# Altium schematic symbol library WE-PD4.SchLib: 97 symbols (part 1 of 2)
Pins are listed as number, name and electrical type; pins without a type are passive.

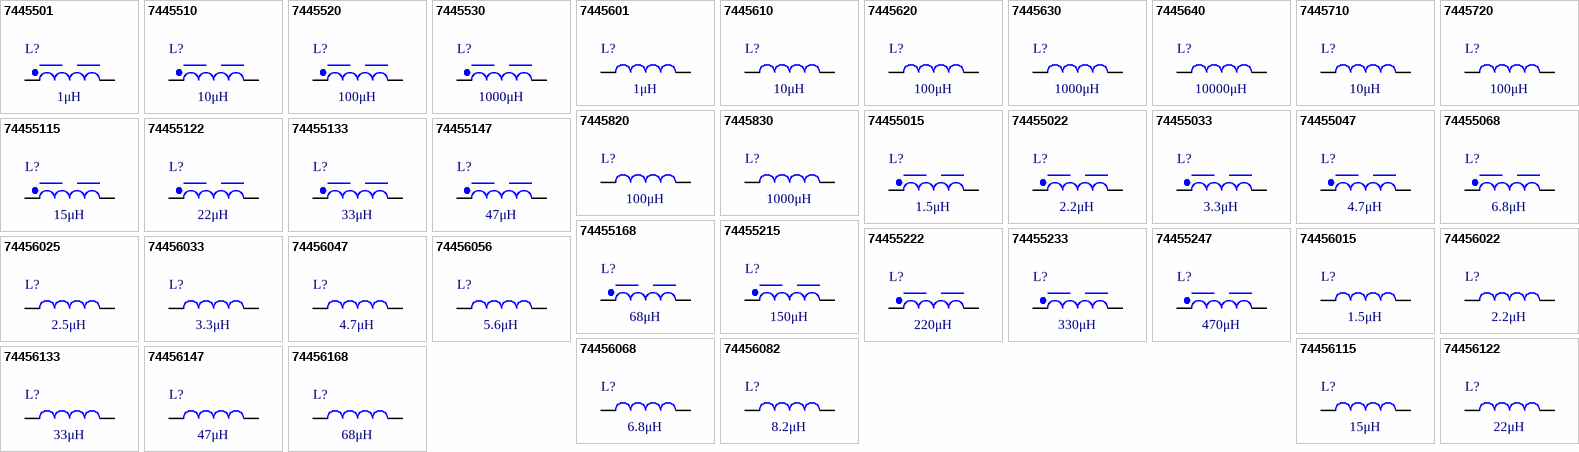
[diagram p0: symbols 7445501 to 74456168]

## 7445501
designator L?, comment 1μH
WE-PD4 Power Inductor, SMT, Type S, 1μH, 2.9A, 0.05Ω; Manufacturer Part Number: 7445501; Manufacturer: Wurth Elektronik; Case/Size Code: Type S; Self Resonant Frequency: 80MHz; Category: Power Inductors; Match Code: WE-PD4; ComponentLink1Description: Website Link; ComponentLink1URL: https://www.we-online.com/redexpert/article/7445501?ad; ComponentLink2Description: Datasheet Link; ComponentLink2URL: https://www.we-online.com/redexpert/spec/7445501?ad; Mount: Surface Mount; Min Operating Temperature: -40°C; Max Operating Temperature: 125°C; Packaging: Tape and Reel; Length: 6.6mm; Width: 4.45mm; Height: 2.92mm; DC Resistance Max: 0.05Ω; Inductance: 1μH; Rated Current: 2.9A; Saturation Current: 2.9A
footprint WE-PD4_Type S
simulation model TypeS_7445501_1u
pins: 1, 2

## 7445510
designator L?, comment 10μH
WE-PD4 Power Inductor, SMT, Type S, 10μH, 1.2A, 0.16Ω; Manufacturer Part Number: 7445510; Manufacturer: Wurth Elektronik; Case/Size Code: Type S; Saturation Current: 1.1A; Self Resonant Frequency: 26MHz; Category: Power Inductors; Match Code: WE-PD4; ComponentLink1Description: Website Link; ComponentLink1URL: https://www.we-online.com/redexpert/article/7445510?ad; ComponentLink2Description: Datasheet Link; ComponentLink2URL: https://www.we-online.com/redexpert/spec/7445510?ad; Mount: Surface Mount; Min Operating Temperature: -40°C; Max Operating Temperature: 125°C; Packaging: Tape and Reel; Length: 6.6mm; Width: 4.45mm; Height: 2.92mm; DC Resistance Max: 0.16Ω; Inductance: 10μH; Rated Current: 1.2A
footprint WE-PD4_Type S
simulation model TypeS_7445510_10u
pins: 1, 2

## 7445520
designator L?, comment 100μH
WE-PD4 Power Inductor, SMT, Type S, 100μH, 0.3A, 1.27Ω; Manufacturer Part Number: 7445520; Manufacturer: Wurth Elektronik; Case/Size Code: Type S; Saturation Current: 0.31A; Self Resonant Frequency: 8MHz; Category: Power Inductors; Match Code: WE-PD4; ComponentLink1Description: Website Link; ComponentLink1URL: https://www.we-online.com/redexpert/article/7445520?ad; ComponentLink2Description: Datasheet Link; ComponentLink2URL: https://www.we-online.com/redexpert/spec/7445520?ad; Mount: Surface Mount; Min Operating Temperature: -40°C; Max Operating Temperature: 125°C; Packaging: Tape and Reel; Length: 6.6mm; Width: 4.45mm; Height: 2.92mm; DC Resistance Max: 1.27Ω; Inductance: 100μH; Rated Current: 0.3A
footprint WE-PD4_Type S
simulation model TypeS_7445520_100u
pins: 1, 2

## 7445530
designator L?, comment 1000μH
WE-PD4 Power Inductor, SMT, Type S, 1000μH, 0.07A, 13.8Ω; Manufacturer Part Number: 7445530; Manufacturer: Wurth Elektronik; Case/Size Code: Type S; Saturation Current: 0.1A; Self Resonant Frequency: 2.2MHz; Category: Power Inductors; Match Code: WE-PD4; ComponentLink1Description: Website Link; ComponentLink1URL: https://www.we-online.com/redexpert/article/7445530?ad; ComponentLink2Description: Datasheet Link; ComponentLink2URL: https://www.we-online.com/redexpert/spec/7445530?ad; Mount: Surface Mount; Min Operating Temperature: -40°C; Max Operating Temperature: 125°C; Packaging: Tape and Reel; Length: 6.6mm; Width: 4.45mm; Height: 2.92mm; DC Resistance Max: 13.8Ω; Inductance: 1000μH; Rated Current: 0.07A
footprint WE-PD4_Type S
simulation model TypeS_7445530_1000u
pins: 1, 2

## 7445601
designator L?, comment 1μH
WE-PD4 Power Inductor, SMT, Type L, 1μH, 8.6A, 0.007Ω; Manufacturer Part Number: 7445601; Manufacturer: Wurth Elektronik; Case/Size Code: Type L; Saturation Current: 14.25A; Self Resonant Frequency: 95MHz; Category: Power Inductors; Match Code: WE-PD4; ComponentLink1Description: Website Link; ComponentLink1URL: https://www.we-online.com/redexpert/article/7445601?ad; ComponentLink2Description: Datasheet Link; ComponentLink2URL: https://www.we-online.com/redexpert/spec/7445601?ad; Mount: Surface Mount; Min Operating Temperature: -40°C; Max Operating Temperature: 125°C; Packaging: Tape and Reel; Length: 12.7mm; Width: 10mm; Height: 5mm; DC Resistance Max: 0.007Ω; Inductance: 1μH; Rated Current: 8.6A
footprint WE-PD4_Type L
simulation model TypeL_7445601_1u
pins: 1, 2

## 7445610
designator L?, comment 10μH
WE-PD4 Power Inductor, SMT, Type L, 10μH, 3.3A, 0.045Ω; Manufacturer Part Number: 7445610; Manufacturer: Wurth Elektronik; Case/Size Code: Type L; Saturation Current: 5A; Self Resonant Frequency: 23MHz; Category: Power Inductors; Match Code: WE-PD4; ComponentLink1Description: Website Link; ComponentLink1URL: https://www.we-online.com/redexpert/article/7445610?ad; ComponentLink2Description: Datasheet Link; ComponentLink2URL: https://www.we-online.com/redexpert/spec/7445610?ad; Mount: Surface Mount; Min Operating Temperature: -40°C; Max Operating Temperature: 125°C; Packaging: Tape and Reel; Length: 12.7mm; Width: 10mm; Height: 5mm; DC Resistance Max: 0.045Ω; Inductance: 10μH; Rated Current: 3.3A
footprint WE-PD4_Type L
simulation model TypeL_7445610_10u
pins: 1, 2

## 7445620
designator L?, comment 100μH
WE-PD4 Power Inductor, SMT, Type L, 100μH, 1.4A, 0.33Ω; Manufacturer Part Number: 7445620; Manufacturer: Wurth Elektronik; Case/Size Code: Type L; Saturation Current: 1.5A; Self Resonant Frequency: 6.5MHz; Category: Power Inductors; Match Code: WE-PD4; ComponentLink1Description: Website Link; ComponentLink1URL: https://www.we-online.com/redexpert/article/7445620?ad; ComponentLink2Description: Datasheet Link; ComponentLink2URL: https://www.we-online.com/redexpert/spec/7445620?ad; Mount: Surface Mount; Min Operating Temperature: -40°C; Max Operating Temperature: 125°C; Packaging: Tape and Reel; Length: 12.7mm; Width: 10mm; Height: 5mm; DC Resistance Max: 0.33Ω; Inductance: 100μH; Rated Current: 1.4A
footprint WE-PD4_Type L
simulation model TypeL_7445620_100u
pins: 1, 2

## 7445630
designator L?, comment 1000μH
WE-PD4 Power Inductor, SMT, Type L, 1000μH, 0.4A, 3.9Ω; Manufacturer Part Number: 7445630; Manufacturer: Wurth Elektronik; Case/Size Code: Type L; Saturation Current: 0.52A; Self Resonant Frequency: 1.9MHz; Category: Power Inductors; Match Code: WE-PD4; ComponentLink1Description: Website Link; ComponentLink1URL: https://www.we-online.com/redexpert/article/7445630?ad; ComponentLink2Description: Datasheet Link; ComponentLink2URL: https://www.we-online.com/redexpert/spec/7445630?ad; Mount: Surface Mount; Min Operating Temperature: -40°C; Max Operating Temperature: 125°C; Packaging: Tape and Reel; Length: 12.7mm; Width: 10mm; Height: 5mm; DC Resistance Max: 3.9Ω; Inductance: 1000μH; Rated Current: 0.4A
footprint WE-PD4_Type L
simulation model TypeL_7445630_1000u
pins: 1, 2

## 7445640
designator L?, comment 10000μH
WE-PD4 Power Inductor, SMT, Type L, 10000μH, 0.1A, 39Ω; Manufacturer Part Number: 7445640; Manufacturer: Wurth Elektronik; Case/Size Code: Type L; Saturation Current: 0.15A; Self Resonant Frequency: 0.6MHz; Category: Power Inductors; Match Code: WE-PD4; ComponentLink1Description: Website Link; ComponentLink1URL: https://www.we-online.com/redexpert/article/7445640?ad; ComponentLink2Description: Datasheet Link; ComponentLink2URL: https://www.we-online.com/redexpert/spec/7445640?ad; Mount: Surface Mount; Min Operating Temperature: -40°C; Max Operating Temperature: 125°C; Packaging: Tape and Reel; Length: 12.7mm; Width: 10mm; Height: 5mm; DC Resistance Max: 39Ω; Inductance: 10000μH; Rated Current: 0.1A
footprint WE-PD4_Type L
simulation model TypeL_7445640_10000u
pins: 1, 2

## 7445710
designator L?, comment 10μH
WE-PD4 Power Inductor, SMT, Type XL, 10μH, 6.5A, 0.021Ω; Manufacturer Part Number: 7445710; Manufacturer: Wurth Elektronik; Case/Size Code: Type XL; Saturation Current: 10A; Self Resonant Frequency: 22MHz; Category: Power Inductors; Match Code: WE-PD4; ComponentLink1Description: Website Link; ComponentLink1URL: https://www.we-online.com/redexpert/article/7445710?ad; ComponentLink2Description: Datasheet Link; ComponentLink2URL: https://www.we-online.com/redexpert/spec/7445710?ad; Mount: Surface Mount; Min Operating Temperature: -40°C; Max Operating Temperature: 125°C; Packaging: Tape and Reel; Length: 22mm; Width: 15mm; Height: 7mm; DC Resistance Max: 0.021Ω; Inductance: 10μH; Rated Current: 6.5A
footprint WE-PD4_Type XL
simulation model TypeXL_7445710_10u
pins: 1, 2

## 7445720
designator L?, comment 100μH
WE-PD4 Power Inductor, SMT, Type XL, 100μH, 2A, 0.202Ω; Manufacturer Part Number: 7445720; Manufacturer: Wurth Elektronik; Case/Size Code: Type XL; Saturation Current: 3A; Self Resonant Frequency: 6.5MHz; Category: Power Inductors; Match Code: WE-PD4; ComponentLink1Description: Website Link; ComponentLink1URL: https://www.we-online.com/redexpert/article/7445720?ad; ComponentLink2Description: Datasheet Link; ComponentLink2URL: https://www.we-online.com/redexpert/spec/7445720?ad; Mount: Surface Mount; Min Operating Temperature: -40°C; Max Operating Temperature: 125°C; Packaging: Tape and Reel; Length: 22mm; Width: 15mm; Height: 7mm; DC Resistance Max: 0.202Ω; Inductance: 100μH; Rated Current: 2A
footprint WE-PD4_Type XL
simulation model TypeXL_7445720_100u
pins: 1, 2

## 7445820
designator L?, comment 100μH
WE-PD4 Power Inductor, SMT, Type X, 100μH, 1.8A, 0.19Ω; Manufacturer Part Number: 7445820; Manufacturer: Wurth Elektronik; Case/Size Code: Type X; Saturation Current: 3.4A; Self Resonant Frequency: 6MHz; Category: Power Inductors; Match Code: WE-PD4; ComponentLink1Description: Website Link; ComponentLink1URL: https://www.we-online.com/redexpert/article/7445820?ad; ComponentLink2Description: Datasheet Link; ComponentLink2URL: https://www.we-online.com/redexpert/spec/7445820?ad; Mount: Surface Mount; Min Operating Temperature: -40°C; Max Operating Temperature: 125°C; Packaging: Tape and Reel; Length: 18.54mm; Width: 15.24mm; Height: 7.11mm; DC Resistance Max: 0.19Ω; Inductance: 100μH; Rated Current: 1.8A
footprint WE-PD4_Type X
simulation model TypeX_7445820_100u
pins: 1, 2

## 7445830
designator L?, comment 1000μH
WE-PD4 Power Inductor, SMT, Type X, 1000μH, 0.56A, 1.8Ω; Manufacturer Part Number: 7445830; Manufacturer: Wurth Elektronik; Case/Size Code: Type X; Saturation Current: 1.1A; Self Resonant Frequency: 1.5MHz; Category: Power Inductors; Match Code: WE-PD4; ComponentLink1Description: Website Link; ComponentLink1URL: https://www.we-online.com/redexpert/article/7445830?ad; ComponentLink2Description: Datasheet Link; ComponentLink2URL: https://www.we-online.com/redexpert/spec/7445830?ad; Mount: Surface Mount; Min Operating Temperature: -40°C; Max Operating Temperature: 125°C; Packaging: Tape and Reel; Length: 18.54mm; Width: 15.24mm; Height: 7.11mm; DC Resistance Max: 1.8Ω; Inductance: 1000μH; Rated Current: 0.56A
footprint WE-PD4_Type X
simulation model TypeX_7445830_1000u
pins: 1, 2

## 74455015
designator L?, comment 1.5μH
WE-PD4 Power Inductor, SMT, Type S, 1.5μH, 2.8A, 0.05Ω; Manufacturer Part Number: 74455015; Manufacturer: Wurth Elektronik; Case/Size Code: Type S; Saturation Current: 2.6A; Self Resonant Frequency: 62MHz; Category: Power Inductors; Match Code: WE-PD4; ComponentLink1Description: Website Link; ComponentLink1URL: https://www.we-online.com/redexpert/article/74455015?ad; ComponentLink2Description: Datasheet Link; ComponentLink2URL: https://www.we-online.com/redexpert/spec/74455015?ad; Mount: Surface Mount; Min Operating Temperature: -40°C; Max Operating Temperature: 125°C; Packaging: Tape and Reel; Length: 6.6mm; Width: 4.45mm; Height: 2.92mm; DC Resistance Max: 0.05Ω; Inductance: 1.5μH; Rated Current: 2.8A
footprint WE-PD4_Type S
simulation model TypeS_74455015_1.5u
pins: 1, 2

## 74455022
designator L?, comment 2.2μH
WE-PD4 Power Inductor, SMT, Type S, 2.2μH, 2.4A, 0.07Ω; Manufacturer Part Number: 74455022; Manufacturer: Wurth Elektronik; Case/Size Code: Type S; Saturation Current: 2.3A; Self Resonant Frequency: 50MHz; Category: Power Inductors; Match Code: WE-PD4; ComponentLink1Description: Website Link; ComponentLink1URL: https://www.we-online.com/redexpert/article/74455022?ad; ComponentLink2Description: Datasheet Link; ComponentLink2URL: https://www.we-online.com/redexpert/spec/74455022?ad; Mount: Surface Mount; Min Operating Temperature: -40°C; Max Operating Temperature: 125°C; Packaging: Tape and Reel; Length: 6.6mm; Width: 4.45mm; Height: 2.92mm; DC Resistance Max: 0.07Ω; Inductance: 2.2μH; Rated Current: 2.4A
footprint WE-PD4_Type S
simulation model TypeS_74455022_2.2u
pins: 1, 2

## 74455033
designator L?, comment 3.3μH
WE-PD4 Power Inductor, SMT, Type S, 3.3μH, 2A, 0.08Ω; Manufacturer Part Number: 74455033; Manufacturer: Wurth Elektronik; Case/Size Code: Type S; Self Resonant Frequency: 39MHz; Category: Power Inductors; Match Code: WE-PD4; ComponentLink1Description: Website Link; ComponentLink1URL: https://www.we-online.com/redexpert/article/74455033?ad; ComponentLink2Description: Datasheet Link; ComponentLink2URL: https://www.we-online.com/redexpert/spec/74455033?ad; Mount: Surface Mount; Min Operating Temperature: -40°C; Max Operating Temperature: 125°C; Packaging: Tape and Reel; Length: 6.6mm; Width: 4.45mm; Height: 2.92mm; DC Resistance Max: 0.08Ω; Inductance: 3.3μH; Rated Current: 2A; Saturation Current: 2A
footprint WE-PD4_Type S
simulation model TypeS_74455033_3.3u
pins: 1, 2

## 74455047
designator L?, comment 4.7μH
WE-PD4 Power Inductor, SMT, Type S, 4.7μH, 1.5A, 0.09Ω; Manufacturer Part Number: 74455047; Manufacturer: Wurth Elektronik; Case/Size Code: Type S; Self Resonant Frequency: 37MHz; Category: Power Inductors; Match Code: WE-PD4; ComponentLink1Description: Website Link; ComponentLink1URL: https://www.we-online.com/redexpert/article/74455047?ad; ComponentLink2Description: Datasheet Link; ComponentLink2URL: https://www.we-online.com/redexpert/spec/74455047?ad; Mount: Surface Mount; Min Operating Temperature: -40°C; Max Operating Temperature: 125°C; Packaging: Tape and Reel; Length: 6.6mm; Width: 4.45mm; Height: 2.92mm; DC Resistance Max: 0.09Ω; Inductance: 4.7μH; Rated Current: 1.5A; Saturation Current: 1.5A
footprint WE-PD4_Type S
simulation model TypeS_74455047_4.7u
pins: 1, 2

## 74455068
designator L?, comment 6.8μH
WE-PD4 Power Inductor, SMT, Type S, 6.8μH, 1.4A, 0.13Ω; Manufacturer Part Number: 74455068; Manufacturer: Wurth Elektronik; Case/Size Code: Type S; Saturation Current: 1.2A; Self Resonant Frequency: 29MHz; Category: Power Inductors; Match Code: WE-PD4; ComponentLink1Description: Website Link; ComponentLink1URL: https://www.we-online.com/redexpert/article/74455068?ad; ComponentLink2Description: Datasheet Link; ComponentLink2URL: https://www.we-online.com/redexpert/spec/74455068?ad; Mount: Surface Mount; Min Operating Temperature: -40°C; Max Operating Temperature: 125°C; Packaging: Tape and Reel; Length: 6.6mm; Width: 4.45mm; Height: 2.92mm; DC Resistance Max: 0.13Ω; Inductance: 6.8μH; Rated Current: 1.4A
footprint WE-PD4_Type S
simulation model TypeS_74455068_6.8u
pins: 1, 2

## 74455115
designator L?, comment 15μH
WE-PD4 Power Inductor, SMT, Type S, 15μH, 1.1A, 0.23Ω; Manufacturer Part Number: 74455115; Manufacturer: Wurth Elektronik; Case/Size Code: Type S; Saturation Current: 0.9A; Self Resonant Frequency: 19MHz; Category: Power Inductors; Match Code: WE-PD4; ComponentLink1Description: Website Link; ComponentLink1URL: https://www.we-online.com/redexpert/article/74455115?ad; ComponentLink2Description: Datasheet Link; ComponentLink2URL: https://www.we-online.com/redexpert/spec/74455115?ad; Mount: Surface Mount; Min Operating Temperature: -40°C; Max Operating Temperature: 125°C; Packaging: Tape and Reel; Length: 6.6mm; Width: 4.45mm; Height: 2.92mm; DC Resistance Max: 0.23Ω; Inductance: 15μH; Rated Current: 1.1A
footprint WE-PD4_Type S
simulation model TypeS_74455115_15u
pins: 1, 2

## 74455122
designator L?, comment 22μH
WE-PD4 Power Inductor, SMT, Type S, 22μH, 0.8A, 0.37Ω; Manufacturer Part Number: 74455122; Manufacturer: Wurth Elektronik; Case/Size Code: Type S; Saturation Current: 0.7A; Self Resonant Frequency: 16MHz; Category: Power Inductors; Match Code: WE-PD4; ComponentLink1Description: Website Link; ComponentLink1URL: https://www.we-online.com/redexpert/article/74455122?ad; ComponentLink2Description: Datasheet Link; ComponentLink2URL: https://www.we-online.com/redexpert/spec/74455122?ad; Mount: Surface Mount; Min Operating Temperature: -40°C; Max Operating Temperature: 125°C; Packaging: Tape and Reel; Length: 6.6mm; Width: 4.45mm; Height: 2.92mm; DC Resistance Max: 0.37Ω; Inductance: 22μH; Rated Current: 0.8A
footprint WE-PD4_Type S
simulation model TypeS_74455122_22u
pins: 1, 2

## 74455133
designator L?, comment 33μH
WE-PD4 Power Inductor, SMT, Type S, 33μH, 0.6A, 0.51Ω; Manufacturer Part Number: 74455133; Manufacturer: Wurth Elektronik; Case/Size Code: Type S; Saturation Current: 0.58A; Self Resonant Frequency: 13MHz; Category: Power Inductors; Match Code: WE-PD4; ComponentLink1Description: Website Link; ComponentLink1URL: https://www.we-online.com/redexpert/article/74455133?ad; ComponentLink2Description: Datasheet Link; ComponentLink2URL: https://www.we-online.com/redexpert/spec/74455133?ad; Mount: Surface Mount; Min Operating Temperature: -40°C; Max Operating Temperature: 125°C; Packaging: Tape and Reel; Length: 6.6mm; Width: 4.45mm; Height: 2.92mm; DC Resistance Max: 0.51Ω; Inductance: 33μH; Rated Current: 0.6A
footprint WE-PD4_Type S
simulation model TypeS_74455133_33u
pins: 1, 2

## 74455147
designator L?, comment 47μH
WE-PD4 Power Inductor, SMT, Type S, 47μH, 0.5A, 0.64Ω; Manufacturer Part Number: 74455147; Manufacturer: Wurth Elektronik; Case/Size Code: Type S; Self Resonant Frequency: 12MHz; Category: Power Inductors; Match Code: WE-PD4; ComponentLink1Description: Website Link; ComponentLink1URL: https://www.we-online.com/redexpert/article/74455147?ad; ComponentLink2Description: Datasheet Link; ComponentLink2URL: https://www.we-online.com/redexpert/spec/74455147?ad; Mount: Surface Mount; Min Operating Temperature: -40°C; Max Operating Temperature: 125°C; Packaging: Tape and Reel; Length: 6.6mm; Width: 4.45mm; Height: 2.92mm; DC Resistance Max: 0.64Ω; Inductance: 47μH; Rated Current: 0.5A; Saturation Current: 0.5A
footprint WE-PD4_Type S
simulation model TypeS_74455147_47u
pins: 1, 2

## 74455168
designator L?, comment 68μH
WE-PD4 Power Inductor, SMT, Type S, 68μH, 0.4A, 0.86Ω; Manufacturer Part Number: 74455168; Manufacturer: Wurth Elektronik; Case/Size Code: Type S; Self Resonant Frequency: 9.5MHz; Category: Power Inductors; Match Code: WE-PD4; ComponentLink1Description: Website Link; ComponentLink1URL: https://www.we-online.com/redexpert/article/74455168?ad; ComponentLink2Description: Datasheet Link; ComponentLink2URL: https://www.we-online.com/redexpert/spec/74455168?ad; Mount: Surface Mount; Min Operating Temperature: -40°C; Max Operating Temperature: 125°C; Packaging: Tape and Reel; Length: 6.6mm; Width: 4.45mm; Height: 2.92mm; DC Resistance Max: 0.86Ω; Inductance: 68μH; Rated Current: 0.4A; Saturation Current: 0.4A
footprint WE-PD4_Type S
simulation model TypeS_74455168_68u
pins: 1, 2

## 74455215
designator L?, comment 150μH
WE-PD4 Power Inductor, SMT, Type S, 150μH, 0.25A, 2Ω; Manufacturer Part Number: 74455215; Manufacturer: Wurth Elektronik; Case/Size Code: Type S; Saturation Current: 0.27A; Self Resonant Frequency: 6MHz; Category: Power Inductors; Match Code: WE-PD4; ComponentLink1Description: Website Link; ComponentLink1URL: https://www.we-online.com/redexpert/article/74455215?ad; ComponentLink2Description: Datasheet Link; ComponentLink2URL: https://www.we-online.com/redexpert/spec/74455215?ad; Mount: Surface Mount; Min Operating Temperature: -40°C; Max Operating Temperature: 125°C; Packaging: Tape and Reel; Length: 6.6mm; Width: 4.45mm; Height: 2.92mm; DC Resistance Max: 2Ω; Inductance: 150μH; Rated Current: 0.25A
footprint WE-PD4_Type S
simulation model TypeS_74455215_150u
pins: 1, 2

## 74455222
designator L?, comment 220μH
WE-PD4 Power Inductor, SMT, Type S, 220μH, 0.2A, 3.11Ω; Manufacturer Part Number: 74455222; Manufacturer: Wurth Elektronik; Case/Size Code: Type S; Saturation Current: 0.22A; Self Resonant Frequency: 4.8MHz; Category: Power Inductors; Match Code: WE-PD4; ComponentLink1Description: Website Link; ComponentLink1URL: https://www.we-online.com/redexpert/article/74455222?ad; ComponentLink2Description: Datasheet Link; ComponentLink2URL: https://www.we-online.com/redexpert/spec/74455222?ad; Mount: Surface Mount; Min Operating Temperature: -40°C; Max Operating Temperature: 125°C; Packaging: Tape and Reel; Length: 6.6mm; Width: 4.45mm; Height: 2.92mm; DC Resistance Max: 3.11Ω; Inductance: 220μH; Rated Current: 0.2A
footprint WE-PD4_Type S
simulation model TypeS_74455222_220u
pins: 1, 2

## 74455233
designator L?, comment 330μH
WE-PD4 Power Inductor, SMT, Type S, 330μH, 0.16A, 5Ω; Manufacturer Part Number: 74455233; Manufacturer: Wurth Elektronik; Case/Size Code: Type S; Saturation Current: 0.18A; Self Resonant Frequency: 4MHz; Category: Power Inductors; Match Code: WE-PD4; ComponentLink1Description: Website Link; ComponentLink1URL: https://www.we-online.com/redexpert/article/74455233?ad; ComponentLink2Description: Datasheet Link; ComponentLink2URL: https://www.we-online.com/redexpert/spec/74455233?ad; Mount: Surface Mount; Min Operating Temperature: -40°C; Max Operating Temperature: 125°C; Packaging: Tape and Reel; Length: 6.6mm; Width: 4.45mm; Height: 2.92mm; DC Resistance Max: 5Ω; Inductance: 330μH; Rated Current: 0.16A
footprint WE-PD4_Type S
simulation model TypeS_74455233_330u
pins: 1, 2

## 74455247
designator L?, comment 470μH
WE-PD4 Power Inductor, SMT, Type S, 470μH, 0.16A, 6.8Ω; Manufacturer Part Number: 74455247; Manufacturer: Wurth Elektronik; Case/Size Code: Type S; Saturation Current: 0.15A; Self Resonant Frequency: 3MHz; Category: Power Inductors; Match Code: WE-PD4; ComponentLink1Description: Website Link; ComponentLink1URL: https://www.we-online.com/redexpert/article/74455247?ad; ComponentLink2Description: Datasheet Link; ComponentLink2URL: https://www.we-online.com/redexpert/spec/74455247?ad; Mount: Surface Mount; Min Operating Temperature: -40°C; Max Operating Temperature: 125°C; Packaging: Tape and Reel; Length: 6.6mm; Width: 4.45mm; Height: 2.92mm; DC Resistance Max: 6.8Ω; Inductance: 470μH; Rated Current: 0.16A
footprint WE-PD4_Type S
simulation model TypeS_74455247_470u
pins: 1, 2

## 74456015
designator L?, comment 1.5μH
WE-PD4 Power Inductor, SMT, Type L, 1.5μH, 7.2A, 0.009Ω; Manufacturer Part Number: 74456015; Manufacturer: Wurth Elektronik; Case/Size Code: Type L; Saturation Current: 10.7A; Self Resonant Frequency: 73MHz; Category: Power Inductors; Match Code: WE-PD4; ComponentLink1Description: Website Link; ComponentLink1URL: https://www.we-online.com/redexpert/article/74456015?ad; ComponentLink2Description: Datasheet Link; ComponentLink2URL: https://www.we-online.com/redexpert/spec/74456015?ad; Mount: Surface Mount; Min Operating Temperature: -40°C; Max Operating Temperature: 125°C; Packaging: Tape and Reel; Length: 12.7mm; Width: 10mm; Height: 5mm; DC Resistance Max: 0.009Ω; Inductance: 1.5μH; Rated Current: 7.2A
footprint WE-PD4_Type L
simulation model TypeL_74456015_1.5u
pins: 1, 2

## 74456022
designator L?, comment 2.2μH
WE-PD4 Power Inductor, SMT, Type L, 2.2μH, 6.5A, 0.011Ω; Manufacturer Part Number: 74456022; Manufacturer: Wurth Elektronik; Case/Size Code: Type L; Saturation Current: 10.2A; Self Resonant Frequency: 63MHz; Category: Power Inductors; Match Code: WE-PD4; ComponentLink1Description: Website Link; ComponentLink1URL: https://www.we-online.com/redexpert/article/74456022?ad; ComponentLink2Description: Datasheet Link; ComponentLink2URL: https://www.we-online.com/redexpert/spec/74456022?ad; Mount: Surface Mount; Min Operating Temperature: -40°C; Max Operating Temperature: 125°C; Packaging: Tape and Reel; Length: 12.7mm; Width: 10mm; Height: 5mm; DC Resistance Max: 0.011Ω; Inductance: 2.2μH; Rated Current: 6.5A
footprint WE-PD4_Type L
simulation model TypeL_74456022_2.2u
pins: 1, 2

## 74456025
designator L?, comment 2.5μH
WE-PD4 Power Inductor, SMT, Type L, 2.5μH, 5.8A, 0.012Ω; Manufacturer Part Number: 74456025; Manufacturer: Wurth Elektronik; Case/Size Code: Type L; Saturation Current: 10A; Self Resonant Frequency: 50MHz; Category: Power Inductors; Match Code: WE-PD4; ComponentLink1Description: Website Link; ComponentLink1URL: https://www.we-online.com/redexpert/article/74456025?ad; ComponentLink2Description: Datasheet Link; ComponentLink2URL: https://www.we-online.com/redexpert/spec/74456025?ad; Mount: Surface Mount; Min Operating Temperature: -40°C; Max Operating Temperature: 125°C; Packaging: Tape and Reel; Length: 12.7mm; Width: 10mm; Height: 5mm; DC Resistance Max: 0.012Ω; Inductance: 2.5μH; Rated Current: 5.8A
footprint WE-PD4_Type L
simulation model TypeL_74456025_2.5u
pins: 1, 2

## 74456033
designator L?, comment 3.3μH
WE-PD4 Power Inductor, SMT, Type L, 3.3μH, 5.3A, 0.015Ω; Manufacturer Part Number: 74456033; Manufacturer: Wurth Elektronik; Case/Size Code: Type L; Saturation Current: 7A; Self Resonant Frequency: 41MHz; Category: Power Inductors; Match Code: WE-PD4; ComponentLink1Description: Website Link; ComponentLink1URL: https://www.we-online.com/redexpert/article/74456033?ad; ComponentLink2Description: Datasheet Link; ComponentLink2URL: https://www.we-online.com/redexpert/spec/74456033?ad; Mount: Surface Mount; Min Operating Temperature: -40°C; Max Operating Temperature: 125°C; Packaging: Tape and Reel; Length: 12.7mm; Width: 10mm; Height: 5mm; DC Resistance Max: 0.015Ω; Inductance: 3.3μH; Rated Current: 5.3A
footprint WE-PD4_Type L
simulation model TypeL_74456033_3.3u
pins: 1, 2

## 74456047
designator L?, comment 4.7μH
WE-PD4 Power Inductor, SMT, Type L, 4.7μH, 5A, 0.019Ω; Manufacturer Part Number: 74456047; Manufacturer: Wurth Elektronik; Case/Size Code: Type L; Saturation Current: 6A; Self Resonant Frequency: 38MHz; Category: Power Inductors; Match Code: WE-PD4; ComponentLink1Description: Website Link; ComponentLink1URL: https://www.we-online.com/redexpert/article/74456047?ad; ComponentLink2Description: Datasheet Link; ComponentLink2URL: https://www.we-online.com/redexpert/spec/74456047?ad; Mount: Surface Mount; Min Operating Temperature: -40°C; Max Operating Temperature: 125°C; Packaging: Tape and Reel; Length: 12.7mm; Width: 10mm; Height: 5mm; DC Resistance Max: 0.019Ω; Inductance: 4.7μH; Rated Current: 5A
footprint WE-PD4_Type L
simulation model TypeL_74456047_4.7u
pins: 1, 2

## 74456056
designator L?, comment 5.6μH
WE-PD4 Power Inductor, SMT, Type L, 5.6μH, 4A, 0.032Ω; Manufacturer Part Number: 74456056; Manufacturer: Wurth Elektronik; Case/Size Code: Type L; Saturation Current: 6A; Self Resonant Frequency: 31MHz; Category: Power Inductors; Match Code: WE-PD4; ComponentLink1Description: Website Link; ComponentLink1URL: https://www.we-online.com/redexpert/article/74456056?ad; ComponentLink2Description: Datasheet Link; ComponentLink2URL: https://www.we-online.com/redexpert/spec/74456056?ad; Mount: Surface Mount; Min Operating Temperature: -40°C; Max Operating Temperature: 125°C; Packaging: Tape and Reel; Length: 12.7mm; Width: 10mm; Height: 5mm; DC Resistance Max: 0.032Ω; Inductance: 5.6μH; Rated Current: 4A
footprint WE-PD4_Type L
simulation model TypeL_74456056_5.6u
pins: 1, 2

## 74456068
designator L?, comment 6.8μH
WE-PD4 Power Inductor, SMT, Type L, 6.8μH, 3.8A, 0.034Ω; Manufacturer Part Number: 74456068; Manufacturer: Wurth Elektronik; Case/Size Code: Type L; Saturation Current: 5.1A; Self Resonant Frequency: 30MHz; Category: Power Inductors; Match Code: WE-PD4; ComponentLink1Description: Website Link; ComponentLink1URL: https://www.we-online.com/redexpert/article/74456068?ad; ComponentLink2Description: Datasheet Link; ComponentLink2URL: https://www.we-online.com/redexpert/spec/74456068?ad; Mount: Surface Mount; Min Operating Temperature: -40°C; Max Operating Temperature: 125°C; Packaging: Tape and Reel; Length: 12.7mm; Width: 10mm; Height: 5mm; DC Resistance Max: 0.034Ω; Inductance: 6.8μH; Rated Current: 3.8A
footprint WE-PD4_Type L
simulation model TypeL_74456068_6.8u
pins: 1, 2

## 74456082
designator L?, comment 8.2μH
WE-PD4 Power Inductor, SMT, Type L, 8.2μH, 3.2A, 0.04Ω; Manufacturer Part Number: 74456082; Manufacturer: Wurth Elektronik; Case/Size Code: Type L; Saturation Current: 4.2A; Self Resonant Frequency: 26MHz; Category: Power Inductors; Match Code: WE-PD4; ComponentLink1Description: Website Link; ComponentLink1URL: https://www.we-online.com/redexpert/article/74456082?ad; ComponentLink2Description: Datasheet Link; ComponentLink2URL: https://www.we-online.com/redexpert/spec/74456082?ad; Mount: Surface Mount; Min Operating Temperature: -40°C; Max Operating Temperature: 125°C; Packaging: Tape and Reel; Length: 12.7mm; Width: 10mm; Height: 5mm; DC Resistance Max: 0.04Ω; Inductance: 8.2μH; Rated Current: 3.2A
footprint WE-PD4_Type L
simulation model TypeL_74456082_8.2u
pins: 1, 2

## 74456115
designator L?, comment 15μH
WE-PD4 Power Inductor, SMT, Type L, 15μH, 2.9A, 0.06Ω; Manufacturer Part Number: 74456115; Manufacturer: Wurth Elektronik; Case/Size Code: Type L; Saturation Current: 3.6A; Self Resonant Frequency: 17MHz; Category: Power Inductors; Match Code: WE-PD4; ComponentLink1Description: Website Link; ComponentLink1URL: https://www.we-online.com/redexpert/article/74456115?ad; ComponentLink2Description: Datasheet Link; ComponentLink2URL: https://www.we-online.com/redexpert/spec/74456115?ad; Mount: Surface Mount; Min Operating Temperature: -40°C; Max Operating Temperature: 125°C; Packaging: Tape and Reel; Length: 12.7mm; Width: 10mm; Height: 5mm; DC Resistance Max: 0.06Ω; Inductance: 15μH; Rated Current: 2.9A
footprint WE-PD4_Type L
simulation model TypeL_74456115_15u
pins: 1, 2

## 74456122
designator L?, comment 22μH
WE-PD4 Power Inductor, SMT, Type L, 22μH, 2.6A, 0.095Ω; Manufacturer Part Number: 74456122; Manufacturer: Wurth Elektronik; Case/Size Code: Type L; Saturation Current: 3.1A; Self Resonant Frequency: 14MHz; Category: Power Inductors; Match Code: WE-PD4; ComponentLink1Description: Website Link; ComponentLink1URL: https://www.we-online.com/redexpert/article/74456122?ad; ComponentLink2Description: Datasheet Link; ComponentLink2URL: https://www.we-online.com/redexpert/spec/74456122?ad; Mount: Surface Mount; Min Operating Temperature: -40°C; Max Operating Temperature: 125°C; Packaging: Tape and Reel; Length: 12.7mm; Width: 10mm; Height: 5mm; DC Resistance Max: 0.095Ω; Inductance: 22μH; Rated Current: 2.6A
footprint WE-PD4_Type L
simulation model TypeL_74456122_22u
pins: 1, 2

## 74456133
designator L?, comment 33μH
WE-PD4 Power Inductor, SMT, Type L, 33μH, 2.3A, 0.12Ω; Manufacturer Part Number: 74456133; Manufacturer: Wurth Elektronik; Case/Size Code: Type L; Saturation Current: 2.6A; Self Resonant Frequency: 13MHz; Category: Power Inductors; Match Code: WE-PD4; ComponentLink1Description: Website Link; ComponentLink1URL: https://www.we-online.com/redexpert/article/74456133?ad; ComponentLink2Description: Datasheet Link; ComponentLink2URL: https://www.we-online.com/redexpert/spec/74456133?ad; Mount: Surface Mount; Min Operating Temperature: -40°C; Max Operating Temperature: 125°C; Packaging: Tape and Reel; Length: 12.7mm; Width: 10mm; Height: 5mm; DC Resistance Max: 0.12Ω; Inductance: 33μH; Rated Current: 2.3A
footprint WE-PD4_Type L
simulation model TypeL_74456133_33u
pins: 1, 2

## 74456147
designator L?, comment 47μH
WE-PD4 Power Inductor, SMT, Type L, 47μH, 1.8A, 0.19Ω; Manufacturer Part Number: 74456147; Manufacturer: Wurth Elektronik; Case/Size Code: Type L; Saturation Current: 2.14A; Self Resonant Frequency: 10MHz; Category: Power Inductors; Match Code: WE-PD4; ComponentLink1Description: Website Link; ComponentLink1URL: https://www.we-online.com/redexpert/article/74456147?ad; ComponentLink2Description: Datasheet Link; ComponentLink2URL: https://www.we-online.com/redexpert/spec/74456147?ad; Mount: Surface Mount; Min Operating Temperature: -40°C; Max Operating Temperature: 125°C; Packaging: Tape and Reel; Length: 12.7mm; Width: 10mm; Height: 5mm; DC Resistance Max: 0.19Ω; Inductance: 47μH; Rated Current: 1.8A
footprint WE-PD4_Type L
simulation model TypeL_74456147_47u
pins: 1, 2

## 74456168
designator L?, comment 68μH
WE-PD4 Power Inductor, SMT, Type L, 68μH, 1.6A, 0.24Ω; Manufacturer Part Number: 74456168; Manufacturer: Wurth Elektronik; Case/Size Code: Type L; Saturation Current: 1.7A; Self Resonant Frequency: 8.5MHz; Category: Power Inductors; Match Code: WE-PD4; ComponentLink1Description: Website Link; ComponentLink1URL: https://www.we-online.com/redexpert/article/74456168?ad; ComponentLink2Description: Datasheet Link; ComponentLink2URL: https://www.we-online.com/redexpert/spec/74456168?ad; Mount: Surface Mount; Min Operating Temperature: -40°C; Max Operating Temperature: 125°C; Packaging: Tape and Reel; Length: 12.7mm; Width: 10mm; Height: 5mm; DC Resistance Max: 0.24Ω; Inductance: 68μH; Rated Current: 1.6A
footprint WE-PD4_Type L
simulation model TypeL_74456168_68u
pins: 1, 2

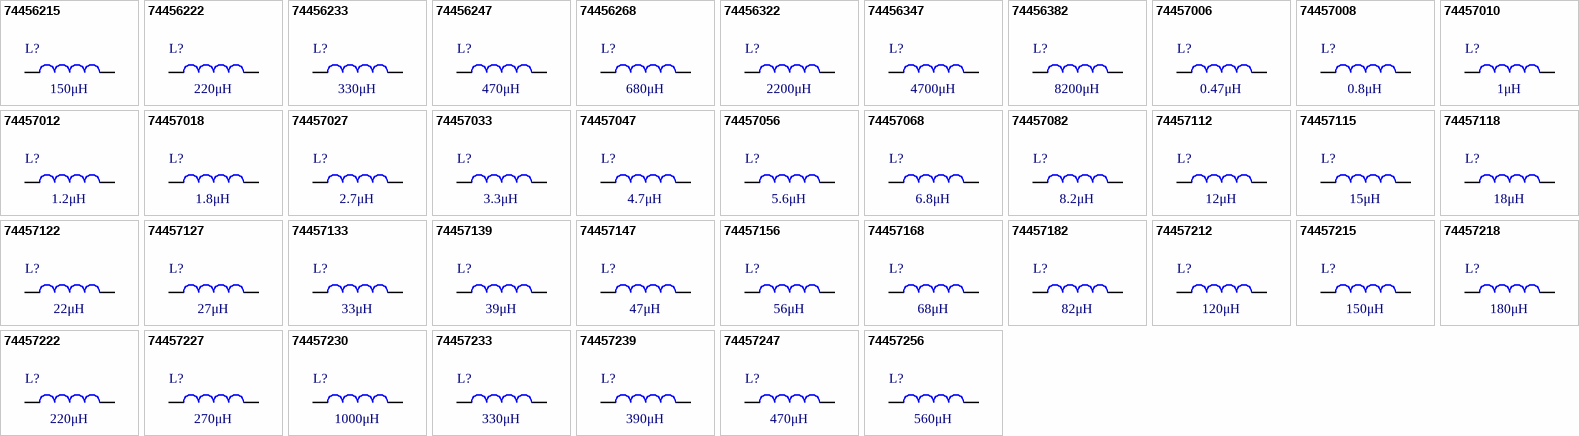
[diagram p1: symbols 74456215 to 74457256]

## 74456215
designator L?, comment 150μH
WE-PD4 Power Inductor, SMT, Type L, 150μH, 1A, 0.59Ω; Manufacturer Part Number: 74456215; Manufacturer: Wurth Elektronik; Case/Size Code: Type L; Saturation Current: 1.2A; Self Resonant Frequency: 5.3MHz; Category: Power Inductors; Match Code: WE-PD4; ComponentLink1Description: Website Link; ComponentLink1URL: https://www.we-online.com/redexpert/article/74456215?ad; ComponentLink2Description: Datasheet Link; ComponentLink2URL: https://www.we-online.com/redexpert/spec/74456215?ad; Mount: Surface Mount; Min Operating Temperature: -40°C; Max Operating Temperature: 125°C; Packaging: Tape and Reel; Length: 12.7mm; Width: 10mm; Height: 5mm; DC Resistance Max: 0.59Ω; Inductance: 150μH; Rated Current: 1A
footprint WE-PD4_Type L
simulation model TypeL_74456215_150u
pins: 1, 2

## 74456222
designator L?, comment 220μH
WE-PD4 Power Inductor, SMT, Type L, 220μH, 0.9A, 0.78Ω; Manufacturer Part Number: 74456222; Manufacturer: Wurth Elektronik; Case/Size Code: Type L; Saturation Current: 1.1A; Self Resonant Frequency: 4.7MHz; Category: Power Inductors; Match Code: WE-PD4; ComponentLink1Description: Website Link; ComponentLink1URL: https://www.we-online.com/redexpert/article/74456222?ad; ComponentLink2Description: Datasheet Link; ComponentLink2URL: https://www.we-online.com/redexpert/spec/74456222?ad; Mount: Surface Mount; Min Operating Temperature: -40°C; Max Operating Temperature: 125°C; Packaging: Tape and Reel; Length: 12.7mm; Width: 10mm; Height: 5mm; DC Resistance Max: 0.78Ω; Inductance: 220μH; Rated Current: 0.9A
footprint WE-PD4_Type L
simulation model TypeL_74456222_220u
pins: 1, 2

## 74456233
designator L?, comment 330μH
WE-PD4 Power Inductor, SMT, Type L, 330μH, 0.7A, 1.15Ω; Manufacturer Part Number: 74456233; Manufacturer: Wurth Elektronik; Case/Size Code: Type L; Saturation Current: 0.8A; Self Resonant Frequency: 3.7MHz; Category: Power Inductors; Match Code: WE-PD4; ComponentLink1Description: Website Link; ComponentLink1URL: https://www.we-online.com/redexpert/article/74456233?ad; ComponentLink2Description: Datasheet Link; ComponentLink2URL: https://www.we-online.com/redexpert/spec/74456233?ad; Mount: Surface Mount; Min Operating Temperature: -40°C; Max Operating Temperature: 125°C; Packaging: Tape and Reel; Length: 12.7mm; Width: 10mm; Height: 5mm; DC Resistance Max: 1.15Ω; Inductance: 330μH; Rated Current: 0.7A
footprint WE-PD4_Type L
simulation model TypeL_74456233_330u
pins: 1, 2

## 74456247
designator L?, comment 470μH
WE-PD4 Power Inductor, SMT, Type L, 470μH, 0.6A, 1.7Ω; Manufacturer Part Number: 74456247; Manufacturer: Wurth Elektronik; Case/Size Code: Type L; Saturation Current: 0.65A; Self Resonant Frequency: 3.1MHz; Category: Power Inductors; Match Code: WE-PD4; ComponentLink1Description: Website Link; ComponentLink1URL: https://www.we-online.com/redexpert/article/74456247?ad; ComponentLink2Description: Datasheet Link; ComponentLink2URL: https://www.we-online.com/redexpert/spec/74456247?ad; Mount: Surface Mount; Min Operating Temperature: -40°C; Max Operating Temperature: 125°C; Packaging: Tape and Reel; Length: 12.7mm; Width: 10mm; Height: 5mm; DC Resistance Max: 1.7Ω; Inductance: 470μH; Rated Current: 0.6A
footprint WE-PD4_Type L
simulation model TypeL_74456247_470u
pins: 1, 2

## 74456268
designator L?, comment 680μH
WE-PD4 Power Inductor, SMT, Type L, 680μH, 0.5A, 2.6Ω; Manufacturer Part Number: 74456268; Manufacturer: Wurth Elektronik; Case/Size Code: Type L; Saturation Current: 0.55A; Self Resonant Frequency: 2.3MHz; Category: Power Inductors; Match Code: WE-PD4; ComponentLink1Description: Website Link; ComponentLink1URL: https://www.we-online.com/redexpert/article/74456268?ad; ComponentLink2Description: Datasheet Link; ComponentLink2URL: https://www.we-online.com/redexpert/spec/74456268?ad; Mount: Surface Mount; Min Operating Temperature: -40°C; Max Operating Temperature: 125°C; Packaging: Tape and Reel; Length: 12.7mm; Width: 10mm; Height: 5mm; DC Resistance Max: 2.6Ω; Inductance: 680μH; Rated Current: 0.5A
footprint WE-PD4_Type L
simulation model TypeL_74456268_680u
pins: 1, 2

## 74456322
designator L?, comment 2200μH
WE-PD4 Power Inductor, SMT, Type L, 2200μH, 0.25A, 8.2Ω; Manufacturer Part Number: 74456322; Manufacturer: Wurth Elektronik; Case/Size Code: Type L; Saturation Current: 0.26A; Self Resonant Frequency: 1.2MHz; Category: Power Inductors; Match Code: WE-PD4; ComponentLink1Description: Website Link; ComponentLink1URL: https://www.we-online.com/redexpert/article/74456322?ad; ComponentLink2Description: Datasheet Link; ComponentLink2URL: https://www.we-online.com/redexpert/spec/74456322?ad; Mount: Surface Mount; Min Operating Temperature: -40°C; Max Operating Temperature: 125°C; Packaging: Tape and Reel; Length: 12.7mm; Width: 10mm; Height: 5mm; DC Resistance Max: 8.2Ω; Inductance: 2200μH; Rated Current: 0.25A
footprint WE-PD4_Type L
simulation model TypeL_74456322_2200u
pins: 1, 2

## 74456347
designator L?, comment 4700μH
WE-PD4 Power Inductor, SMT, Type L, 4700μH, 0.2A, 17Ω; Manufacturer Part Number: 74456347; Manufacturer: Wurth Elektronik; Case/Size Code: Type L; Self Resonant Frequency: 0.9MHz; Category: Power Inductors; Match Code: WE-PD4; ComponentLink1Description: Website Link; ComponentLink1URL: https://www.we-online.com/redexpert/article/74456347?ad; ComponentLink2Description: Datasheet Link; ComponentLink2URL: https://www.we-online.com/redexpert/spec/74456347?ad; Mount: Surface Mount; Min Operating Temperature: -40°C; Max Operating Temperature: 125°C; Packaging: Tape and Reel; Length: 12.7mm; Width: 10mm; Height: 5mm; DC Resistance Max: 17Ω; Inductance: 4700μH; Rated Current: 0.2A; Saturation Current: 0.2A
footprint WE-PD4_Type L
simulation model TypeL_74456347_4700u
pins: 1, 2

## 74456382
designator L?, comment 8200μH
WE-PD4 Power Inductor, SMT, Type L, 8200μH, 0.11A, 35Ω; Manufacturer Part Number: 74456382; Manufacturer: Wurth Elektronik; Case/Size Code: Type L; Saturation Current: 0.17A; Self Resonant Frequency: 0.7MHz; Category: Power Inductors; Match Code: WE-PD4; ComponentLink1Description: Website Link; ComponentLink1URL: https://www.we-online.com/redexpert/article/74456382?ad; ComponentLink2Description: Datasheet Link; ComponentLink2URL: https://www.we-online.com/redexpert/spec/74456382?ad; Mount: Surface Mount; Min Operating Temperature: -40°C; Max Operating Temperature: 125°C; Packaging: Tape and Reel; Length: 12.7mm; Width: 10mm; Height: 5mm; DC Resistance Max: 35Ω; Inductance: 8200μH; Rated Current: 0.11A
footprint WE-PD4_Type L
simulation model TypeL_74456382_8200u
pins: 1, 2

## 74457006
designator L?, comment 0.47μH
WE-PD4 Power Inductor, SMT, Type XL, 0.47μH, 18A, 0.002Ω; Manufacturer Part Number: 74457006; Manufacturer: Wurth Elektronik; Case/Size Code: Type XL; Saturation Current: 38A; Self Resonant Frequency: 120MHz; Category: Power Inductors; Match Code: WE-PD4; ComponentLink1Description: Website Link; ComponentLink1URL: https://www.we-online.com/redexpert/article/74457006?ad; ComponentLink2Description: Datasheet Link; ComponentLink2URL: https://www.we-online.com/redexpert/spec/74457006?ad; Mount: Surface Mount; Min Operating Temperature: -40°C; Max Operating Temperature: 125°C; Packaging: Tape and Reel; Length: 22mm; Width: 15mm; Height: 7mm; DC Resistance Max: 0.002Ω; Inductance: 0.47μH; Rated Current: 18A
footprint WE-PD4_Type XL
simulation model TypeXL_74457006_0.5u
pins: 1, 2

## 74457008
designator L?, comment 0.8μH
WE-PD4 Power Inductor, SMT, Type XL, 0.8μH, 16A, 0.003Ω; Manufacturer Part Number: 74457008; Manufacturer: Wurth Elektronik; Case/Size Code: Type XL; Saturation Current: 35A; Self Resonant Frequency: 92MHz; Category: Power Inductors; Match Code: WE-PD4; ComponentLink1Description: Website Link; ComponentLink1URL: https://www.we-online.com/redexpert/article/74457008?ad; ComponentLink2Description: Datasheet Link; ComponentLink2URL: https://www.we-online.com/redexpert/spec/74457008?ad; Mount: Surface Mount; Min Operating Temperature: -40°C; Max Operating Temperature: 125°C; Packaging: Tape and Reel; Length: 22mm; Width: 15mm; Height: 7mm; DC Resistance Max: 0.003Ω; Inductance: 0.8μH; Rated Current: 16A
footprint WE-PD4_Type XL
simulation model TypeXL_74457008_0.8u
pins: 1, 2

## 74457010
designator L?, comment 1μH
WE-PD4 Power Inductor, SMT, Type XL, 1μH, 15A, 0.004Ω; Manufacturer Part Number: 74457010; Manufacturer: Wurth Elektronik; Case/Size Code: Type XL; Saturation Current: 32A; Self Resonant Frequency: 88MHz; Category: Power Inductors; Match Code: WE-PD4; ComponentLink1Description: Website Link; ComponentLink1URL: https://www.we-online.com/redexpert/article/74457010?ad; ComponentLink2Description: Datasheet Link; ComponentLink2URL: https://www.we-online.com/redexpert/spec/74457010?ad; Mount: Surface Mount; Min Operating Temperature: -40°C; Max Operating Temperature: 125°C; Packaging: Tape and Reel; Length: 22mm; Width: 15mm; Height: 7mm; DC Resistance Max: 0.004Ω; Inductance: 1μH; Rated Current: 15A
footprint WE-PD4_Type XL
simulation model TypeXL_74457010_1u
pins: 1, 2

## 74457012
designator L?, comment 1.2μH
WE-PD4 Power Inductor, SMT, Type XL, 1.2μH, 15A, 0.004Ω; Manufacturer Part Number: 74457012; Manufacturer: Wurth Elektronik; Case/Size Code: Type XL; Saturation Current: 30A; Self Resonant Frequency: 64MHz; Category: Power Inductors; Match Code: WE-PD4; ComponentLink1Description: Website Link; ComponentLink1URL: https://www.we-online.com/redexpert/article/74457012?ad; ComponentLink2Description: Datasheet Link; ComponentLink2URL: https://www.we-online.com/redexpert/spec/74457012?ad; Mount: Surface Mount; Min Operating Temperature: -40°C; Max Operating Temperature: 125°C; Packaging: Tape and Reel; Length: 22mm; Width: 15mm; Height: 7mm; DC Resistance Max: 0.004Ω; Inductance: 1.2μH; Rated Current: 15A
footprint WE-PD4_Type XL
simulation model TypeXL_74457012_1.2u
pins: 1, 2

## 74457018
designator L?, comment 1.8μH
WE-PD4 Power Inductor, SMT, Type XL, 1.8μH, 13A, 0.005Ω; Manufacturer Part Number: 74457018; Manufacturer: Wurth Elektronik; Case/Size Code: Type XL; Saturation Current: 25A; Self Resonant Frequency: 50MHz; Category: Power Inductors; Match Code: WE-PD4; ComponentLink1Description: Website Link; ComponentLink1URL: https://www.we-online.com/redexpert/article/74457018?ad; ComponentLink2Description: Datasheet Link; ComponentLink2URL: https://www.we-online.com/redexpert/spec/74457018?ad; Mount: Surface Mount; Min Operating Temperature: -40°C; Max Operating Temperature: 125°C; Packaging: Tape and Reel; Length: 22mm; Width: 15mm; Height: 7mm; DC Resistance Max: 0.005Ω; Inductance: 1.8μH; Rated Current: 13A
footprint WE-PD4_Type XL
simulation model TypeXL_74457018_1.8u
pins: 1, 2

## 74457027
designator L?, comment 2.7μH
WE-PD4 Power Inductor, SMT, Type XL, 2.7μH, 10A, 0.008Ω; Manufacturer Part Number: 74457027; Manufacturer: Wurth Elektronik; Case/Size Code: Type XL; Saturation Current: 20A; Self Resonant Frequency: 44MHz; Category: Power Inductors; Match Code: WE-PD4; ComponentLink1Description: Website Link; ComponentLink1URL: https://www.we-online.com/redexpert/article/74457027?ad; ComponentLink2Description: Datasheet Link; ComponentLink2URL: https://www.we-online.com/redexpert/spec/74457027?ad; Mount: Surface Mount; Min Operating Temperature: -40°C; Max Operating Temperature: 125°C; Packaging: Tape and Reel; Length: 22mm; Width: 15mm; Height: 7mm; DC Resistance Max: 0.008Ω; Inductance: 2.7μH; Rated Current: 10A
footprint WE-PD4_Type XL
simulation model TypeXL_74457027_2.7u
pins: 1, 2

## 74457033
designator L?, comment 3.3μH
WE-PD4 Power Inductor, SMT, Type XL, 3.3μH, 9A, 0.009Ω; Manufacturer Part Number: 74457033; Manufacturer: Wurth Elektronik; Case/Size Code: Type XL; Saturation Current: 17A; Self Resonant Frequency: 39MHz; Category: Power Inductors; Match Code: WE-PD4; ComponentLink1Description: Website Link; ComponentLink1URL: https://www.we-online.com/redexpert/article/74457033?ad; ComponentLink2Description: Datasheet Link; ComponentLink2URL: https://www.we-online.com/redexpert/spec/74457033?ad; Mount: Surface Mount; Min Operating Temperature: -40°C; Max Operating Temperature: 125°C; Packaging: Tape and Reel; Length: 22mm; Width: 15mm; Height: 7mm; DC Resistance Max: 0.009Ω; Inductance: 3.3μH; Rated Current: 9A
footprint WE-PD4_Type XL
simulation model TypeXL_74457033_3.3u
pins: 1, 2

## 74457047
designator L?, comment 4.7μH
WE-PD4 Power Inductor, SMT, Type XL, 4.7μH, 8.5A, 0.011Ω; Manufacturer Part Number: 74457047; Manufacturer: Wurth Elektronik; Case/Size Code: Type XL; Saturation Current: 15A; Self Resonant Frequency: 33MHz; Category: Power Inductors; Match Code: WE-PD4; ComponentLink1Description: Website Link; ComponentLink1URL: https://www.we-online.com/redexpert/article/74457047?ad; ComponentLink2Description: Datasheet Link; ComponentLink2URL: https://www.we-online.com/redexpert/spec/74457047?ad; Mount: Surface Mount; Min Operating Temperature: -40°C; Max Operating Temperature: 125°C; Packaging: Tape and Reel; Length: 22mm; Width: 15mm; Height: 7mm; DC Resistance Max: 0.011Ω; Inductance: 4.7μH; Rated Current: 8.5A
footprint WE-PD4_Type XL
simulation model TypeXL_74457047_4.7u
pins: 1, 2

## 74457056
designator L?, comment 5.6μH
WE-PD4 Power Inductor, SMT, Type XL, 5.6μH, 7.8A, 0.015Ω; Manufacturer Part Number: 74457056; Manufacturer: Wurth Elektronik; Case/Size Code: Type XL; Saturation Current: 14A; Self Resonant Frequency: 27MHz; Category: Power Inductors; Match Code: WE-PD4; ComponentLink1Description: Website Link; ComponentLink1URL: https://www.we-online.com/redexpert/article/74457056?ad; ComponentLink2Description: Datasheet Link; ComponentLink2URL: https://www.we-online.com/redexpert/spec/74457056?ad; Mount: Surface Mount; Min Operating Temperature: -40°C; Max Operating Temperature: 125°C; Packaging: Tape and Reel; Length: 22mm; Width: 15mm; Height: 7mm; DC Resistance Max: 0.015Ω; Inductance: 5.6μH; Rated Current: 7.8A
footprint WE-PD4_Type XL
simulation model TypeXL_74457056_5.6u
pins: 1, 2

## 74457068
designator L?, comment 6.8μH
WE-PD4 Power Inductor, SMT, Type XL, 6.8μH, 7.5A, 0.017Ω; Manufacturer Part Number: 74457068; Manufacturer: Wurth Elektronik; Case/Size Code: Type XL; Saturation Current: 12A; Self Resonant Frequency: 26MHz; Category: Power Inductors; Match Code: WE-PD4; ComponentLink1Description: Website Link; ComponentLink1URL: https://www.we-online.com/redexpert/article/74457068?ad; ComponentLink2Description: Datasheet Link; ComponentLink2URL: https://www.we-online.com/redexpert/spec/74457068?ad; Mount: Surface Mount; Min Operating Temperature: -40°C; Max Operating Temperature: 125°C; Packaging: Tape and Reel; Length: 22mm; Width: 15mm; Height: 7mm; DC Resistance Max: 0.017Ω; Inductance: 6.8μH; Rated Current: 7.5A
footprint WE-PD4_Type XL
simulation model TypeXL_74457068_6.8u
pins: 1, 2

## 74457082
designator L?, comment 8.2μH
WE-PD4 Power Inductor, SMT, Type XL, 8.2μH, 7A, 0.019Ω; Manufacturer Part Number: 74457082; Manufacturer: Wurth Elektronik; Case/Size Code: Type XL; Saturation Current: 11A; Self Resonant Frequency: 23MHz; Category: Power Inductors; Match Code: WE-PD4; ComponentLink1Description: Website Link; ComponentLink1URL: https://www.we-online.com/redexpert/article/74457082?ad; ComponentLink2Description: Datasheet Link; ComponentLink2URL: https://www.we-online.com/redexpert/spec/74457082?ad; Mount: Surface Mount; Min Operating Temperature: -40°C; Max Operating Temperature: 125°C; Packaging: Tape and Reel; Length: 22mm; Width: 15mm; Height: 7mm; DC Resistance Max: 0.019Ω; Inductance: 8.2μH; Rated Current: 7A
footprint WE-PD4_Type XL
simulation model TypeXL_74457082_8.2u
pins: 1, 2

## 74457112
designator L?, comment 12μH
WE-PD4 Power Inductor, SMT, Type XL, 12μH, 5.5A, 0.028Ω; Manufacturer Part Number: 74457112; Manufacturer: Wurth Elektronik; Case/Size Code: Type XL; Saturation Current: 9.5A; Self Resonant Frequency: 18MHz; Category: Power Inductors; Match Code: WE-PD4; ComponentLink1Description: Website Link; ComponentLink1URL: https://www.we-online.com/redexpert/article/74457112?ad; ComponentLink2Description: Datasheet Link; ComponentLink2URL: https://www.we-online.com/redexpert/spec/74457112?ad; Mount: Surface Mount; Min Operating Temperature: -40°C; Max Operating Temperature: 125°C; Packaging: Tape and Reel; Length: 22mm; Width: 15mm; Height: 7mm; DC Resistance Max: 0.028Ω; Inductance: 12μH; Rated Current: 5.5A
footprint WE-PD4_Type XL
simulation model TypeXL_74457112_12u
pins: 1, 2